# EAGLE library part 2X10SMD_HEADER (library synth_design)
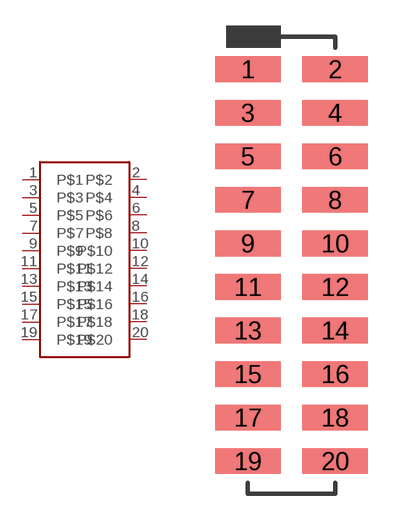
[diagram p4: symbol with the pads of 2X10SMDPADS; footprint 2X10SMDPADS]

Designator prefix -

## 2X10SMD_HEADER  [2X10SMDPADS]
1  P$1
2  P$2
3  P$3
4  P$4
5  P$5
6  P$6
7  P$7
8  P$8
9  P$9
10  P$10
11  P$11
12  P$12
13  P$13
14  P$14
15  P$15
16  P$16
17  P$17
18  P$18
19  P$19
20  P$20

## Footprint 2X10SMDPADS (pad centres in mm)
smd 3.81 x 1.499: 1 -2.54,11.43; 2 2.54,11.43; 3 -2.54,8.89; 4 2.54,8.89; 5 -2.54,6.35; 6 2.54,6.35; 7 -2.54,3.81; 8 2.54,3.81; 9 -2.54,1.27; 10 2.54,1.27; 11 -2.54,-1.27; 12 2.54,-1.27; 13 -2.54,-3.81; 14 2.54,-3.81; 15 -2.54,-6.35; 16 2.54,-6.35; 17 -2.54,-8.89; 18 2.54,-8.89; 19 -2.54,-11.43; 20 2.54,-11.43